# Altium schematic symbol library AltiumDesigner.SchLib: 2 symbols
Pins are listed as number, name and electrical type; pins without a type are passive.

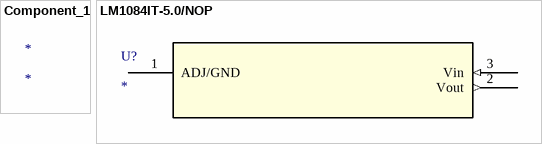
[diagram p0: symbols Component_1 to LM1084IT-5.0/NOP]

## Component_1
designator *

## LM1084IT-5.0/NOP
designator U?
Imported; Manufacturer_Part_Number: LM1084IT-5.0/NOPB; Vendor: Texas Instruments; Built_By: EMA_UL_Team; C: Copyright (C) 2015 Accelerated Designs. All rights reserved; RefDes: RefDes; Type: DEV; Value: Value
footprint T03B
pins: 1 ADJ/GND, 2 Vout (out), 3 Vin (in)